# Altium footprint library 50A-20BX.PcbLib: 1 footprints
Each footprint in its own frame and in the unit in brackets; x right, y up, seen from the top. Pads: shape width x height; smd on the part's side, far side on the other; paste and mask are expansions set on the pad; w line width, h text height; cw(c..) or ccw(c..) is an arc to the next point about the centre after c.
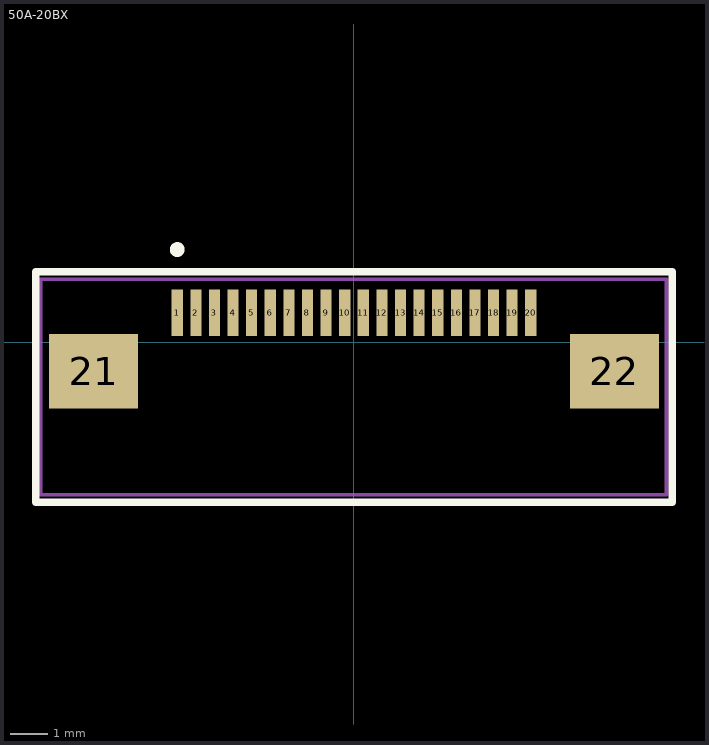
[diagram p0: the footprint, top view; thin cyan lines are the x and y axes]

## 50A-20BX [mm]
height 2.2
pads (22):
  rect 0.3x1.25 smd: 1(-4.75,0.788) 2(-4.25,0.788) 3(-3.75,0.788) 4(-3.25,0.788) 5(-2.75,0.788) 6(-2.25,0.788) 7(-1.75,0.788) 8(-1.25,0.788) 9(-0.75,0.788) 10(-0.25,0.788) 11(0.25,0.788) 12(0.75,0.788) 13(1.25,0.788) 14(1.75,0.788) 15(2.25,0.788) 16(2.75,0.788) 17(3.25,0.788) 18(3.75,0.788) 19(4.25,0.788) 20(4.75,0.788)
  rect 2.4x2 smd: 21(-7,-0.787) 22(7,-0.787)
Top Overlay:
  circle w0.2: c-4.75,2.488 r0.1
  lines w0.2: -8.55,-4.3 8.55,-4.3 8.55,1.888 -8.55,1.888 -8.55,-4.3
Top Assembly:
  lines w0.1: -8.425,-4.1 -8.425,1.688 8.4,1.688 8.4,-4.1 -8.425,-4.1
Top Courtyard:
  lines w0.05: -8.425,-4.1 8.375,-4.1 8.375,1.707 -8.425,1.707 -8.425,-4.1
3D body "527452097.stp": height 1.91, standoff 0, extent -8.05,-4.038 8.05,0.962